# EAGLE library part AT45DB (library Memory)
Atmel AT45DB Series Flash Memory
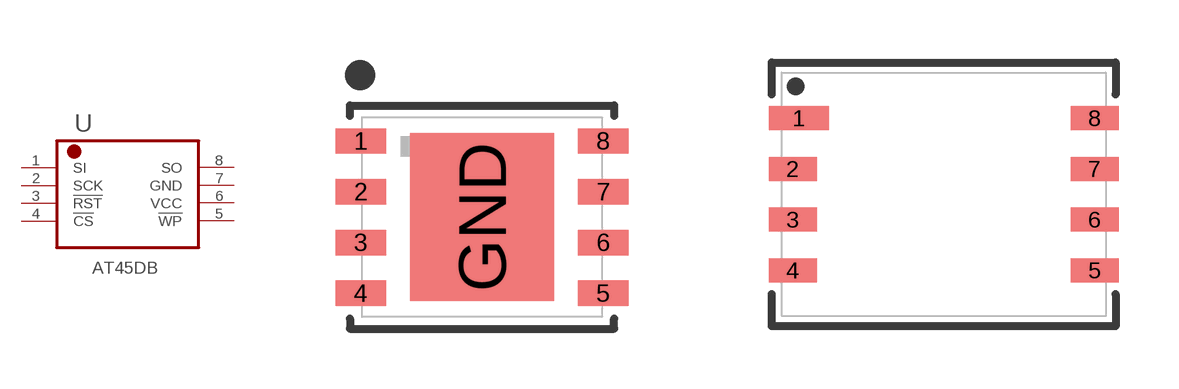
[diagram p3: symbol with the pads of 8-VDFN; footprints 8-VDFN, 8-CASON]

Designator prefix U

## AT45DB161D-MU, AT45DB321D-MU  [8-VDFN]
1  SI  in
2  SCK  in
3  !RST  in
4  !CS  in
5  !WP  in
6  VCC  pwr
7  GND  pwr
8  SO  out

## AT45DB642D-CN  [8-CASON]
Pads as for 8-VDFN

## Footprint 8-VDFN (pad centres in mm)
smd 1.27 x 0.635: 1 -3.032,1.905; 2 -3.032,0.635; 3 -3.032,-0.635; 4 -3.032,-1.905; 5 3.032,-1.905; 6 3.032,-0.635; 7 3.032,0.635; 8 3.032,1.905
smd 3.6 x 4.2: GND 0,0

## Footprint 8-CASON (pad centres in mm)
smd 1.5 x 0.6: 1 -3.625,1.905
smd 1.2 x 0.6: 2 -3.775,0.635; 3 -3.775,-0.635; 4 -3.775,-1.905; 5 3.775,-1.905; 6 3.775,-0.635; 7 3.775,0.635; 8 3.775,1.905